# EAGLE library part A4982 (library Hoektronics)
DMOS Microstepping Driver with Translator Auto generated by make-symbol-device-package-bsdl.ulp Rev. 32 Source: http://www.allegromicro.com/en/Products/Part_Numbers/4982/4982.pdf
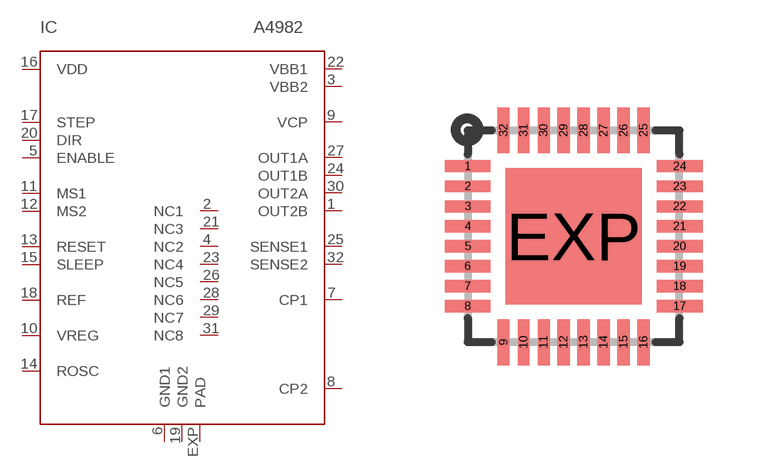
[diagram p10: symbol with the pads of QFN32ET; footprint QFN32ET]

Designator prefix IC

## A4982  [QFN32ET]
1  OUT2B  out
2  NC1  nc
3  VBB2  pwr
4  NC2  nc
5  ENABLE  in
6  GND1  pwr
7  CP1  pas
8  CP2  pas
9  VCP  pas
10  VREG  pas
11  MS1  in
12  MS2  in
13  RESET  in
14  ROSC  in
15  SLEEP  in
16  VDD  pwr
17  STEP  in
18  REF  in
19  GND2  pwr
20  DIR  in
21  NC3  nc
22  VBB1  pwr
23  NC4  nc
24  OUT1B  out
25  SENSE1  in
26  NC5  nc
27  OUT1A  out
28  NC6  nc
29  NC7  nc
30  OUT2A  out
31  NC8  nc
32  SENSE2  in
EXP  PAD  pwr

## Footprint QFN32ET (pad centres in mm)
28 Pin QFN ET Auto generated by make-symbol-device-package-bsdl.ulp Rev. 32 Source: http://www.allegromicro.com/en/Products/Part_Numbers/4983/4983.pdf
smd 1.15 x 0.3: 1 -2.4,1.5; 2 -2.4,1; 3 -2.4,0.5; 4 -2.4,0; 5 -2.4,-0.5; 6 -2.4,-1; 7 -2.4,-1.5; 8 -2.4,-2; 17 2.9,-2; 18 2.9,-1.5; 19 2.9,-1; 20 2.9,-0.5; 21 2.9,0; 22 2.9,0.5; 23 2.9,1; 24 2.9,1.5
smd 0.3 x 1.15: 9 -1.5,-2.9; 10 -1,-2.9; 11 -0.5,-2.9; 12 0,-2.9; 13 0.5,-2.9; 14 1,-2.9; 15 1.5,-2.9; 16 2,-2.9; 25 2,2.4; 26 1.5,2.4; 27 1,2.4; 28 0.5,2.4; 29 0,2.4; 30 -0.5,2.4; 31 -1,2.4; 32 -1.5,2.4
smd 3.4 x 3.4: EXP 0.25,-0.25